# Altium footprint library PcbLib1.PcbLib: 28 footprints (part 2 of 2)
Each footprint in its own frame and in the unit in brackets; x right, y up, seen from the top. Pads: shape width x height; smd on the part's side, far side on the other; paste and mask are expansions set on the pad; w line width, h text height; cw(c..) or ccw(c..) is an arc to the next point about the centre after c.
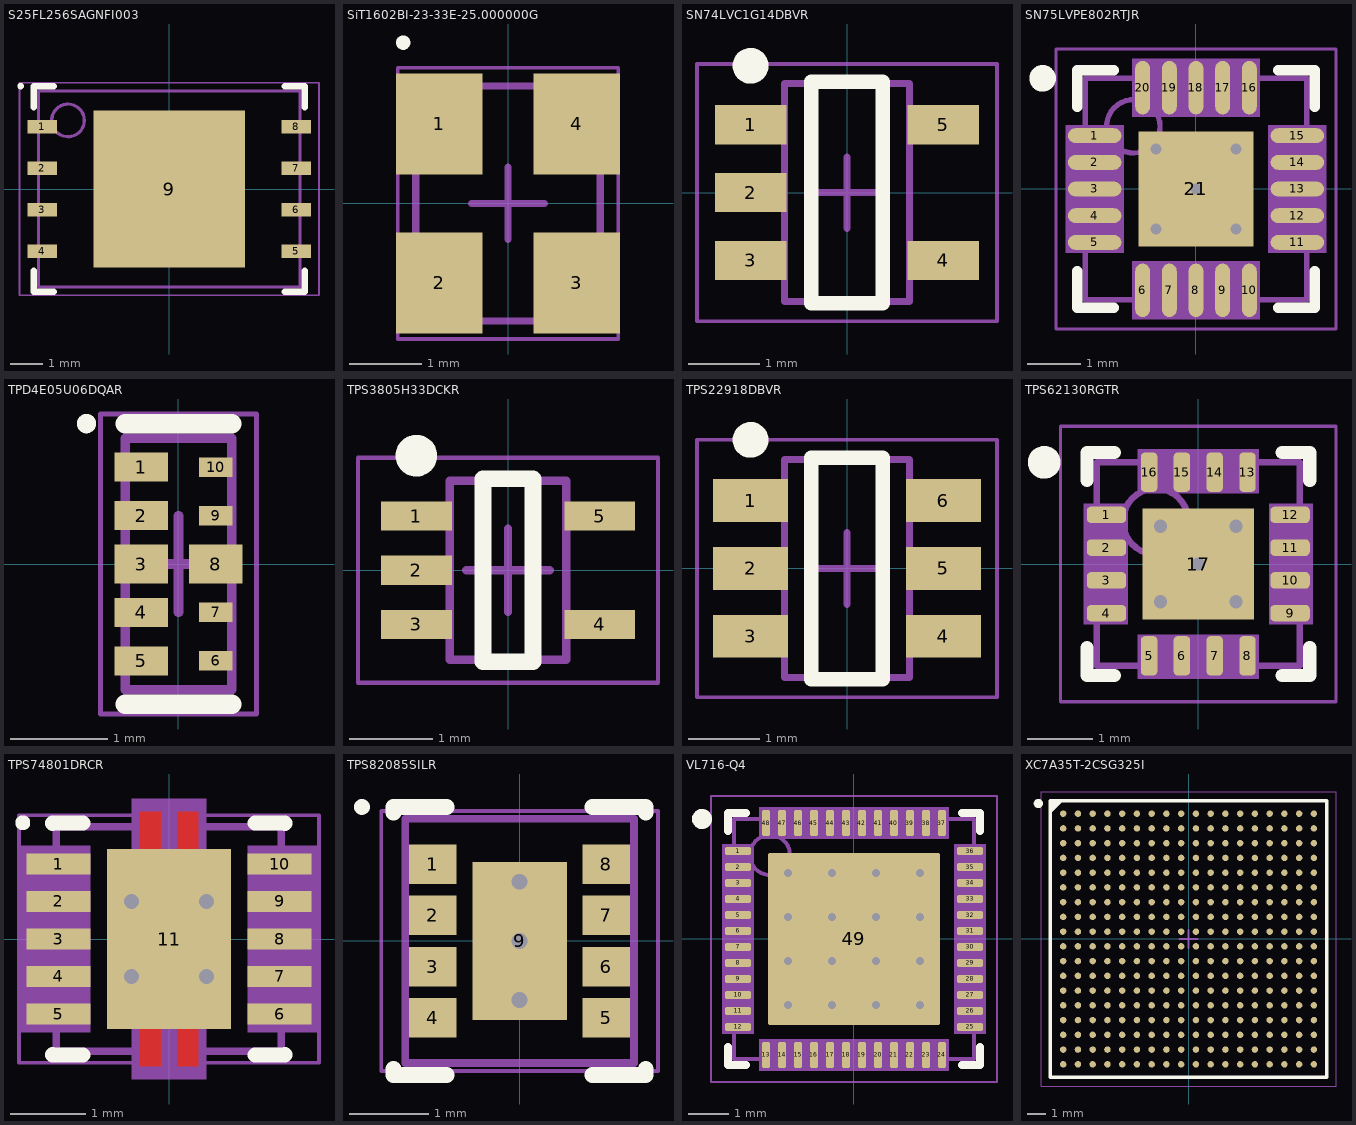
[diagram p1: the footprints below, top view; thin cyan lines are the x and y axes]

## S25FL256SAGNFI003 [mm] "SON, 8-Leads, Body 6,00x8,00mm, Pitch 1,27mm, Thermal Pad 4,80x4,65mm, IPC Medium Density"
height 0.8
pads (9):
  rect 0.9x0.4 smd: 1(-3.89,1.905) 2(-3.89,0.635) 3(-3.89,-0.635) 4(-3.89,-1.905) 5(3.89,-1.905) 6(3.89,-0.635) 7(3.89,0.635) 8(3.89,1.905)
  rect 4.65x4.8 smd paste-2.325: 9(0,0)
Top Overlay:
  circle w0.1: c-4.55,3.15 r0.05
  lines w0.2: -4.15,-2.505 -4.15,-3.15 -3.54,-3.15 ; -4.15,2.505 -4.15,3.15 -3.54,3.15 ; 3.54,-3.15 4.15,-3.15 4.15,-2.505 ; 3.54,3.15 4.15,3.15 4.15,2.505
Top Paste:
  rectangle: -2.22,1.3 -1.26,2.3
  rectangle: -2.22,0.1 -1.26,1.1
  rectangle: -2.22,-1.1 -1.26,-0.1
  rectangle: -2.22,-2.3 -1.26,-1.3
  rectangle: -1.06,1.3 -0.1,2.3
  rectangle: -1.06,0.1 -0.1,1.1
  rectangle: -1.06,-1.1 -0.1,-0.1
  rectangle: -1.06,-2.3 -0.1,-1.3
  rectangle: 0.1,1.3 1.06,2.3
  rectangle: 0.1,0.1 1.06,1.1
  rectangle: 0.1,-1.1 1.06,-0.1
  rectangle: 0.1,-2.3 1.06,-1.3
  rectangle: 1.26,1.3 2.22,2.3
  rectangle: 1.26,0.1 2.22,1.1
  rectangle: 1.26,-1.1 2.22,-0.1
  rectangle: 1.26,-2.3 2.22,-1.3
Mechanical 13:
  circle w0.1: c-3.1,2.1 r0.5
  lines w0.1: -4,-3 -4,3 4,3 4,-3 -4,-3
Mechanical 15:
  lines w0.05: -4.585,-3.25 -4.585,3.25 4.585,3.25 4.585,-3.25 -4.585,-3.25
  lines w0.1: -0.5,0 0.5,0 ; 0,-0.5 0,0.5
3D body: height 0.8, standoff 0, extent -4,-3 4,3

## SiT1602BI-23-33E-25.000000G [mm] "DFN, 4-Leads, Body 3,20x2,50mm, Pitch 1,60mm, IPC Medium Density"
height 0.8
pads (4):
  rect 1.2x1.4 smd: 1(-0.95,1.1) 2(-0.95,-1.1) 3(0.95,-1.1) 4(0.95,1.1)
Top Overlay:
  circle w0.1: c-1.45,2.225 r0.05
Mechanical 13:
  lines w0.1: -1.275,-1.625 -1.275,1.625 1.275,1.625 1.275,-1.625 -1.275,-1.625
Mechanical 15:
  lines w0.05: -1.525,-1.875 -1.525,1.875 1.525,1.875 1.525,-1.875 -1.525,-1.875
  lines w0.1: -0.5,0 0.5,0 ; 0,-0.5 0,0.5
3D body: height 0.8, standoff 0, extent -1.275,-1.625 1.275,1.625

## SN74LVC1G14DBVR [mm] "SOT23, 5-Leads, Body 2,90x2,80mm, Pitch 0,95mm, IPC Medium Density"
height 1.45
pads (5):
  rect 1x0.55 smd: 1(-1.35,0.95) 2(-1.35,0) 3(-1.35,-0.95) 4(1.35,-0.95) 5(1.35,0.95)
Top Overlay:
  circle w0.25: c-1.35,1.775 r0.125
  lines w0.2: -0.5,-1.55 -0.5,1.55 0.5,1.55 0.5,-1.55 -0.5,-1.55
Mechanical 13:
  lines w0.1: -0.875,-1.525 0.875,-1.525 0.875,1.525 -0.875,1.525 -0.875,-1.525
Mechanical 15:
  lines w0.05: -2.1,-1.8 2.1,-1.8 2.1,1.8 -2.1,1.8 -2.1,-1.8
  lines w0.1: -0.5,0 0.5,0 ; 0,-0.5 0,0.5
3D body "SN74LVC1G14DBVR.step": height 1.45, standoff 0, extent -1.5,-1.525 1.5,1.525

## SN75LVPE802RTJR [mm] "QFN, 20-Leads, Body 4,00x4,00mm, Pitch 0,50mm, Thermal Pad 2,15x2,15mm, IPC Medium Density"
height 0.8
pads (21):
  oval 1x0.28 smd paste-0.02 mask+0.04: 1(-1.9,1) 2(-1.9,0.5) 3(-1.9,0) 4(-1.9,-0.5) 5(-1.9,-1) 11(1.9,-1) 12(1.9,-0.5) 13(1.9,0) 14(1.9,0.5) 15(1.9,1)
  oval 0.28x1 smd paste-0.02 mask+0.04: 6(-1,-1.9) 7(-0.5,-1.9) 8(0,-1.9) 9(0.5,-1.9) 10(1,-1.9) 16(1,1.9) 17(0.5,1.9) 18(0,1.9) 19(-0.5,1.9) 20(-1,1.9)
  rect 2.15x2.15 smd paste-1000 mask+0.04: 21(0,0)
via 0,0 diameter 0.5 hole 0.2
via 0.75,0.75 diameter 0.5 hole 0.2
via 0.75,-0.75 diameter 0.5 hole 0.2
via -0.75,-0.75 diameter 0.5 hole 0.2
via -0.75,0.75 diameter 0.5 hole 0.2
Top Overlay:
  circle w0.25: c-2.875,2.075 r0.125
  lines w0.2: -2.225,-1.54 -2.225,-2.225 -1.54,-2.225 ; -2.225,1.54 -2.225,2.225 -1.54,2.225 ; 1.54,-2.225 2.225,-2.225 2.225,-1.54 ; 1.54,2.225 2.225,2.225 2.225,1.54
Top Paste:
  rectangle: -1.05,0.2 -0.2,1.05
  rectangle: 0.2,0.2 1.05,1.05
  rectangle: -1.05,-1.05 -0.2,-0.2
  rectangle: 0.2,-1.05 1.05,-0.2
Mechanical 13:
  circle w0.1: c-1.175,1.175 r0.5
  lines w0.1: -2.075,-2.075 -2.075,2.075 2.075,2.075 2.075,-2.075 -2.075,-2.075
Mechanical 15:
  rectangle: -1.2,-2.45 1.2,-1.35
  rectangle: 1.35,-1.2 2.45,1.2
  rectangle: -1.2,1.35 1.2,2.45
  rectangle: -2.45,-1.2 -1.35,1.2
  lines w0.05: -2.625,-2.625 -2.625,2.625 2.625,2.625 2.625,-2.625 -2.625,-2.625
  lines w0.1: -0.5,0 0.5,0 ; 0,-0.5 0,0.5
3D body: height 0.8, standoff 0, extent -2.075,-2.075 2.075,2.075

## TPD4E05U06DQAR [mm] "PSON, 10-Leads, Body 2,50x1,00mm, Pitch 0,50mm, IPC Medium Density"
height 0.55
pads (10):
  rect 0.55x0.3 smd mask+0: 1(-0.385,1) 2(-0.385,0.5) 4(-0.385,-0.5) 5(-0.385,-1)
  rect 0.55x0.4 smd mask+0: 3(-0.385,0) 8(0.385,0)
  rect 0.35x0.2 smd paste-1000 mask-1000: 6(0.385,-1) 7(0.385,-0.5) 9(0.385,0.5) 10(0.385,1)
Top Overlay:
  circle w0.1: c-0.95,1.45 r0.05
  lines w0.2: -0.55,-1.45 0.55,-1.45 ; -0.55,1.45 0.55,1.45
Top Solder:
  rectangle: -0.75,-1.25 0,1.25
  rectangle: -0.11,-0.225 0.75,0.225
Mechanical 13:
  lines w0.1: -0.55,-1.3 0.55,-1.3 0.55,1.3 -0.55,1.3 -0.55,-1.3
Mechanical 15:
  lines w0.05: -0.805,-1.55 0.805,-1.55 0.805,1.55 -0.805,1.55 -0.805,-1.55
  lines w0.1: -0.5,0 0.5,0 ; 0,-0.5 0,0.5
3D body "TPD4E05U06DQAR.step": height 0.55, standoff 0, extent -0.551,-1.3 0.551,1.3

## TPS3805H33DCKR [mm] "SOT23, 5-Leads, Body 2,00x2,10mm, Pitch 0,65mm, IPC Medium Density"
height 1.1
pads (5):
  rect 0.85x0.35 smd: 1(-1.1,0.65) 2(-1.1,0) 3(-1.1,-0.65) 4(1.1,-0.65) 5(1.1,0.65)
Top Overlay:
  circle w0.25: c-1.1,1.375 r0.125
  lines w0.2: -0.3,-1.1 -0.3,1.1 0.3,1.1 0.3,-1.1 -0.3,-1.1
Mechanical 13:
  lines w0.1: -0.7,-1.075 0.7,-1.075 0.7,1.075 -0.7,1.075 -0.7,-1.075
Mechanical 15:
  lines w0.05: -1.8,-1.35 1.8,-1.35 1.8,1.35 -1.8,1.35 -1.8,-1.35
  lines w0.1: -0.5,0 0.5,0 ; 0,-0.5 0,0.5
3D body "SOT65P210X110-5N.step": height 1.1, standoff 0, extent -1.2,-1.075 1.2,1.075

## TPS22918DBVR [mm] "SOT23, 6-Leads, Body 2,90x2,80mm, Pitch 0,95mm, IPC Medium Density"
height 1.45
pads (6):
  rect 1.05x0.6 smd: 1(-1.35,0.95) 2(-1.35,0) 3(-1.35,-0.95) 4(1.35,-0.95) 5(1.35,0) 6(1.35,0.95)
Top Overlay:
  circle w0.25: c-1.35,1.8 r0.125
  lines w0.2: -0.5,-1.55 -0.5,1.55 0.5,1.55 0.5,-1.55 -0.5,-1.55
Mechanical 13:
  lines w0.1: -0.875,-1.525 0.875,-1.525 0.875,1.525 -0.875,1.525 -0.875,-1.525
Mechanical 15:
  lines w0.05: -2.1,-1.8 2.1,-1.8 2.1,1.8 -2.1,1.8 -2.1,-1.8
  lines w0.1: -0.5,0 0.5,0 ; 0,-0.5 0,0.5
3D body "SOT95P280X145-6N.step": height 1.45, standoff 0, extent -1.5,-1.525 1.5,1.525

## TPS62130RGTR [mm] "QFN, 16-Leads, Body 3,00x3,00mm, Pitch 0,50mm, Thermal Pad 1,70x1,70mm, IPC Medium Density"
height 1
pads (17):
  rrect50% 0.6x0.25 smd paste+0 mask+0.04: 1(-1.4,0.75) 2(-1.4,0.25) 3(-1.4,-0.25) 4(-1.4,-0.75) 9(1.4,-0.75) 10(1.4,-0.25) 11(1.4,0.25) 12(1.4,0.75)
  rrect50% 0.25x0.6 smd paste+0 mask+0.04: 5(-0.75,-1.4) 6(-0.25,-1.4) 7(0.25,-1.4) 8(0.75,-1.4) 13(0.75,1.4) 14(0.25,1.4) 15(-0.25,1.4) 16(-0.75,1.4)
  rect 1.7x1.7 smd paste+0 mask+0.04: 17(0,0)
via -0.575,0.575 diameter 0.5 hole 0.2
via -0.575,-0.575 diameter 0.5 hole 0.2
via 0.575,-0.575 diameter 0.5 hole 0.2
via 0.575,0.575 diameter 0.5 hole 0.2
via 0,0 diameter 0.5 hole 0.2
Top Overlay:
  circle w0.25: c-2.35,1.55 r0.125
  lines w0.2: -1.7,-1.275 -1.7,-1.7 -1.275,-1.7 ; -1.7,1.275 -1.7,1.7 -1.275,1.7 ; 1.275,-1.7 1.7,-1.7 1.7,-1.275 ; 1.275,1.7 1.7,1.7 1.7,1.275
Mechanical 13:
  circle w0.1: c-0.65,0.65 r0.5
  lines w0.1: -1.55,-1.55 1.55,-1.55 1.55,1.55 -1.55,1.55 -1.55,-1.55
Mechanical 15:
  rectangle: -0.925,-1.75 0.925,-1.075
  rectangle: 1.075,-0.925 1.75,0.925
  rectangle: -0.925,1.075 0.925,1.75
  rectangle: -1.75,-0.925 -1.075,0.925
  lines w0.05: -2.1,-2.1 2.1,-2.1 2.1,2.1 -2.1,2.1 -2.1,-2.1
  lines w0.1: -0.5,0 0.5,0 ; 0,-0.5 0,0.5
3D body: height 1, standoff 0, extent -1.55,-1.55 1.55,1.55

## TPS74801DRCR [mm] "SON, 10-Leads, Body 3x3mm, Pitch 0.5mm, Thermal Pad 3x1.65mm"
height 1
pads (11):
  rect 0.85x0.28 smd mask+0.04: 1(-1.475,1) 2(-1.475,0.5) 3(-1.475,0) 4(-1.475,-0.5) 5(-1.475,-1) 6(1.475,-1) 7(1.475,-0.5) 8(1.475,0) 9(1.475,0.5) 10(1.475,1)
  rect 1.65x2.4 smd paste-1000 mask+0.04: 11(0,0)
via 0.5,-0.5 diameter 0.5 hole 0.2
via -0.5,-0.5 diameter 0.5 hole 0.2
via 0.5,0.5 diameter 0.5 hole 0.2
via -0.5,0.5 diameter 0.5 hole 0.2
Top Layer:
  region: 0.11,1.2 0.11,1.7 0.39,1.7 0.39,1.2
  region: -0.11,-1.2 -0.11,-1.7 -0.39,-1.7 -0.39,-1.2
  region: 0.11,-1.2 0.11,-1.7 0.39,-1.7 0.39,-1.2
  region: -0.11,1.2 -0.11,1.7 -0.39,1.7 -0.39,1.2
Top Overlay:
  circle w0.1: c-1.95,1.55 r0.05
  lines w0.2: -1.55,-1.54 -1.55,-1.55 -1.15,-1.55 ; -1.55,1.54 -1.55,1.55 -1.15,1.55 ; 1.15,-1.55 1.55,-1.55 1.55,-1.54 ; 1.15,1.55 1.55,1.55 1.55,1.54
Top Paste:
  rectangle: -0.755,0.05 -0.075,1.1
  rectangle: 0.075,0.05 0.755,1.1
  rectangle: -0.755,-1.125 -0.075,-0.075
  rectangle: 0.075,-1.125 0.755,-0.075
  region: 0.11,1.2 0.11,1.7 0.39,1.7 0.39,1.2
  region: -0.11,-1.2 -0.11,-1.7 -0.39,-1.7 -0.39,-1.2
  region: 0.11,-1.2 0.11,-1.7 0.39,-1.7 0.39,-1.2
  region: -0.11,1.2 -0.11,1.7 -0.39,1.7 -0.39,1.2
Mechanical 13:
  lines w0.1: -1.5,-1.5 1.5,-1.5 1.5,1.5 -1.5,1.5 -1.5,-1.5
Mechanical 15:
  rectangle: -2,-1.25 -1.05,1.25
  rectangle: 1.05,-1.25 2,1.25
  rectangle: -0.5,1.2 0.5,1.875
  rectangle: -0.5,-1.875 0.5,-1.2
  lines w0.05: -2,-1.65 2,-1.65 2,1.65 -2,1.65 -2,-1.65
  lines w0.1: -0.5,0 0.5,0 ; 0,-0.5 0,0.5
3D body: height 1, standoff 0, extent -1.5,-1.5 1.5,1.5

## TPS82085SILR [mm] "SON, 8-Leads, Body 3,00x2,80mm, Pitch 0,65mm, Thermal Pad 1,90x1,10mm, IPC High Density"
height 1.33
pads (9):
  rect 0.6x0.5 smd paste-0.05 mask-0.05: 1(-1.1,0.975) 2(-1.1,0.325) 3(-1.1,-0.325) 4(-1.1,-0.975) 5(1.1,-0.975) 6(1.1,-0.325) 7(1.1,0.325) 8(1.1,0.975)
  rect 1.2x2 smd paste-1000 mask-0.05: 9(0,0)
via 0,0 diameter 0.5 hole 0.2
via 0,0.75 diameter 0.5 hole 0.2
via 0,-0.75 diameter 0.5 hole 0.2
Top Overlay:
  circle w0.1: c-2,1.7 r0.05
  lines w0.2: -1.6,-1.625 -1.6,-1.7 -0.925,-1.7 ; -1.6,1.625 -1.6,1.7 -0.925,1.7 ; 0.925,-1.7 1.6,-1.7 1.6,-1.625 ; 0.925,1.7 1.6,1.7 1.6,1.625
Top Paste:
  rectangle: -0.55,0.1 0.55,1
  rectangle: -0.55,-1 0.55,-0.1
Mechanical 13:
  lines w0.1: -1.45,-1.55 -1.45,1.55 1.45,1.55 1.45,-1.55 -1.45,-1.55
Mechanical 15:
  lines w0.05: -1.755,-1.65 -1.755,1.65 1.755,1.65 1.755,-1.65 -1.755,-1.65
  lines w0.1: -0.5,0 0.5,0 ; 0,-0.5 0,0.5
3D body: height 1.33, standoff 0.08, extent -1.45,-1.55 1.45,1.55

## VL716-Q4 [mm] "QFN, 48-Leads, Body 6,00x6,00mm, Pitch 0,40mm, Thermal Pad 4,30x4,30mm, IPC Medium Density"
height 0.9
pads (49):
  rrect50% 0.65x0.2 smd mask+0.04: 1(-2.9,2.2) 2(-2.9,1.8) 3(-2.9,1.4) 4(-2.9,1) 5(-2.9,0.6) 6(-2.9,0.2) 7(-2.9,-0.2) 8(-2.9,-0.6) 9(-2.9,-1) 10(-2.9,-1.4) 11(-2.9,-1.8) 12(-2.9,-2.2) 25(2.9,-2.2) 26(2.9,-1.8) 27(2.9,-1.4) 28(2.9,-1) 29(2.9,-0.6) 30(2.9,-0.2) 31(2.9,0.2) 32(2.9,0.6) 33(2.9,1) 34(2.9,1.4) 35(2.9,1.8) 36(2.9,2.2)
  rrect50% 0.2x0.65 smd mask+0.04: 13(-2.2,-2.9) 14(-1.8,-2.9) 15(-1.4,-2.9) 16(-1,-2.9) 17(-0.6,-2.9) 18(-0.2,-2.9) 19(0.2,-2.9) 20(0.6,-2.9) 21(1,-2.9) 22(1.4,-2.9) 23(1.8,-2.9) 24(2.2,-2.9) 37(2.2,2.9) 38(1.8,2.9) 39(1.4,2.9) 40(1,2.9) 41(0.6,2.9) 42(0.2,2.9) 43(-0.2,2.9) 44(-0.6,2.9) 45(-1,2.9) 46(-1.4,2.9) 47(-1.8,2.9) 48(-2.2,2.9)
  rrect2% 4.3x4.3 smd mask+0.07: 49(0,0)
via -1.65,1.65 diameter 0.5 hole 0.2
via -0.55,1.65 diameter 0.5 hole 0.2
via 0.55,1.65 diameter 0.5 hole 0.2
via 1.65,1.65 diameter 0.5 hole 0.2
via -1.65,0.55 diameter 0.5 hole 0.2
via -0.55,0.55 diameter 0.5 hole 0.2
via 0.55,0.55 diameter 0.5 hole 0.2
via 1.65,0.55 diameter 0.5 hole 0.2
via -1.65,-0.55 diameter 0.5 hole 0.2
via -0.55,-0.55 diameter 0.5 hole 0.2
via 0.55,-0.55 diameter 0.5 hole 0.2
via 1.65,-0.55 diameter 0.5 hole 0.2
via -1.65,-1.65 diameter 0.5 hole 0.2
via -0.55,-1.65 diameter 0.5 hole 0.2
via 0.55,-1.65 diameter 0.5 hole 0.2
via 1.65,-1.65 diameter 0.5 hole 0.2
Top Overlay:
  circle w0.25: c-3.8,3 r0.125
  lines w0.2: -3.15,-2.7 -3.15,-3.15 -2.7,-3.15 ; -3.15,2.7 -3.15,3.15 -2.7,3.15 ; 2.7,-3.15 3.15,-3.15 3.15,-2.7 ; 2.7,3.15 3.15,3.15 3.15,2.7
Mechanical 13:
  circle w0.1: c-2.1,2.1 r0.5
  lines w0.1: -3,-3 -3,3 3,3 3,-3 -3,-3
Mechanical 15:
  rectangle: -3.3,-2.375 -2.5,2.375
  rectangle: -2.375,2.5 2.375,3.3
  rectangle: 2.5,-2.375 3.3,2.375
  rectangle: -2.375,-3.3 2.375,-2.5
  lines w0.05: -3.575,-3.575 -3.575,3.575 3.575,3.575 3.575,-3.575 -3.575,-3.575
  lines w0.1: -0.5,0 0.5,0 ; 0,-0.5 0,0.5
3D body: height 0.9, standoff 0, extent -3,-3 3,3

## XC7A35T-2CSG325I [mm] "BGA, 324-Balls, Body 15x15mm, Pitch 0.8mm"
height 1.5
pads (324):
  round 0.35 smd mask+0.03: A1(-6.8,6.8) A2(-6,6.8) A3(-5.2,6.8) A4(-4.4,6.8) A5(-3.6,6.8) A6(-2.8,6.8) A7(-2,6.8) A8(-1.2,6.8) A9(-0.4,6.8) A10(0.4,6.8) A11(1.2,6.8) A12(2,6.8) A13(2.8,6.8) A14(3.6,6.8) A15(4.4,6.8) A16(5.2,6.8) A17(6,6.8) A18(6.8,6.8) B1(-6.8,6) B2(-6,6) B3(-5.2,6) B4(-4.4,6) B5(-3.6,6) B6(-2.8,6) B7(-2,6) B8(-1.2,6) B9(-0.4,6) B10(0.4,6) B11(1.2,6) B12(2,6) B13(2.8,6) B14(3.6,6) B15(4.4,6) B16(5.2,6) B17(6,6) B18(6.8,6) C1(-6.8,5.2) C2(-6,5.2) C3(-5.2,5.2) C4(-4.4,5.2) C5(-3.6,5.2) C6(-2.8,5.2) C7(-2,5.2) C8(-1.2,5.2) C9(-0.4,5.2) C10(0.4,5.2) C11(1.2,5.2) C12(2,5.2) C13(2.8,5.2) C14(3.6,5.2) C15(4.4,5.2) C16(5.2,5.2) C17(6,5.2) C18(6.8,5.2) D1(-6.8,4.4) D2(-6,4.4) D3(-5.2,4.4) D4(-4.4,4.4) D5(-3.6,4.4) D6(-2.8,4.4) D7(-2,4.4) D8(-1.2,4.4) D9(-0.4,4.4) D10(0.4,4.4) D11(1.2,4.4) D12(2,4.4) D13(2.8,4.4) D14(3.6,4.4) D15(4.4,4.4) D16(5.2,4.4) D17(6,4.4) D18(6.8,4.4) E1(-6.8,3.6) E2(-6,3.6) E3(-5.2,3.6) E4(-4.4,3.6) E5(-3.6,3.6) E6(-2.8,3.6) E7(-2,3.6) E8(-1.2,3.6) E9(-0.4,3.6) E10(0.4,3.6) E11(1.2,3.6) E12(2,3.6) E13(2.8,3.6) E14(3.6,3.6) E15(4.4,3.6) E16(5.2,3.6) E17(6,3.6) E18(6.8,3.6) F1(-6.8,2.8) F2(-6,2.8) F3(-5.2,2.8) F4(-4.4,2.8) F5(-3.6,2.8) F6(-2.8,2.8) F7(-2,2.8) F8(-1.2,2.8) F9(-0.4,2.8) F10(0.4,2.8) F11(1.2,2.8) F12(2,2.8) F13(2.8,2.8) F14(3.6,2.8) F15(4.4,2.8) F16(5.2,2.8) F17(6,2.8) F18(6.8,2.8) G1(-6.8,2) G2(-6,2) G3(-5.2,2) G4(-4.4,2) G5(-3.6,2) G6(-2.8,2) G7(-2,2) G8(-1.2,2) G9(-0.4,2) G10(0.4,2) G11(1.2,2) G12(2,2) G13(2.8,2) G14(3.6,2) G15(4.4,2) G16(5.2,2) G17(6,2) G18(6.8,2) H1(-6.8,1.2) H2(-6,1.2) H3(-5.2,1.2) H4(-4.4,1.2) H5(-3.6,1.2) H6(-2.8,1.2) H7(-2,1.2) H8(-1.2,1.2) H9(-0.4,1.2) H10(0.4,1.2) H11(1.2,1.2) H12(2,1.2) H13(2.8,1.2) H14(3.6,1.2) H15(4.4,1.2) H16(5.2,1.2) H17(6,1.2) H18(6.8,1.2) J1(-6.8,0.4) J2(-6,0.4) J3(-5.2,0.4) J4(-4.4,0.4) J5(-3.6,0.4) J6(-2.8,0.4) J7(-2,0.4) J8(-1.2,0.4) J9(-0.4,0.4) J10(0.4,0.4) J11(1.2,0.4) J12(2,0.4) J13(2.8,0.4) J14(3.6,0.4) J15(4.4,0.4) J16(5.2,0.4) J17(6,0.4) J18(6.8,0.4) K1(-6.8,-0.4) K2(-6,-0.4) K3(-5.2,-0.4) K4(-4.4,-0.4) K5(-3.6,-0.4) K6(-2.8,-0.4) K7(-2,-0.4) K8(-1.2,-0.4) K9(-0.4,-0.4) K10(0.4,-0.4) K11(1.2,-0.4) K12(2,-0.4) K13(2.8,-0.4) K14(3.6,-0.4) K15(4.4,-0.4) K16(5.2,-0.4) K17(6,-0.4) K18(6.8,-0.4) L1(-6.8,-1.2) L2(-6,-1.2) L3(-5.2,-1.2) L4(-4.4,-1.2) L5(-3.6,-1.2) L6(-2.8,-1.2) L7(-2,-1.2) L8(-1.2,-1.2) L9(-0.4,-1.2) L10(0.4,-1.2) L11(1.2,-1.2) L12(2,-1.2) L13(2.8,-1.2) L14(3.6,-1.2) L15(4.4,-1.2) L16(5.2,-1.2) L17(6,-1.2) L18(6.8,-1.2) M1(-6.8,-2) M2(-6,-2) M3(-5.2,-2) M4(-4.4,-2) M5(-3.6,-2) M6(-2.8,-2) M7(-2,-2) M8(-1.2,-2) M9(-0.4,-2) M10(0.4,-2) M11(1.2,-2) M12(2,-2) M13(2.8,-2) M14(3.6,-2) M15(4.4,-2) M16(5.2,-2) M17(6,-2) M18(6.8,-2) N1(-6.8,-2.8) N2(-6,-2.8) N3(-5.2,-2.8) N4(-4.4,-2.8) N5(-3.6,-2.8) N6(-2.8,-2.8) N7(-2,-2.8) N8(-1.2,-2.8) N9(-0.4,-2.8) N10(0.4,-2.8) N11(1.2,-2.8) N12(2,-2.8) N13(2.8,-2.8) N14(3.6,-2.8) N15(4.4,-2.8) N16(5.2,-2.8) N17(6,-2.8) N18(6.8,-2.8) P1(-6.8,-3.6) P2(-6,-3.6) P3(-5.2,-3.6) P4(-4.4,-3.6) P5(-3.6,-3.6) P6(-2.8,-3.6) P7(-2,-3.6) P8(-1.2,-3.6) P9(-0.4,-3.6) P10(0.4,-3.6) P11(1.2,-3.6) P12(2,-3.6) P13(2.8,-3.6) P14(3.6,-3.6) P15(4.4,-3.6) P16(5.2,-3.6) P17(6,-3.6) P18(6.8,-3.6) R1(-6.8,-4.4) R2(-6,-4.4) R3(-5.2,-4.4) R4(-4.4,-4.4) R5(-3.6,-4.4) R6(-2.8,-4.4) R7(-2,-4.4) R8(-1.2,-4.4) R9(-0.4,-4.4) R10(0.4,-4.4) R11(1.2,-4.4) R12(2,-4.4) R13(2.8,-4.4) R14(3.6,-4.4) R15(4.4,-4.4) R16(5.2,-4.4) R17(6,-4.4) R18(6.8,-4.4) T1(-6.8,-5.2) T2(-6,-5.2) T3(-5.2,-5.2) T4(-4.4,-5.2) T5(-3.6,-5.2) T6(-2.8,-5.2) T7(-2,-5.2) T8(-1.2,-5.2) T9(-0.4,-5.2) T10(0.4,-5.2) T11(1.2,-5.2) T12(2,-5.2) T13(2.8,-5.2) T14(3.6,-5.2) T15(4.4,-5.2) T16(5.2,-5.2) T17(6,-5.2) T18(6.8,-5.2) U1(-6.8,-6) U2(-6,-6) U3(-5.2,-6) U4(-4.4,-6) U5(-3.6,-6) U6(-2.8,-6) U7(-2,-6) U8(-1.2,-6) U9(-0.4,-6) U10(0.4,-6) U11(1.2,-6) U12(2,-6) U13(2.8,-6) U14(3.6,-6) U15(4.4,-6) U16(5.2,-6) U17(6,-6) U18(6.8,-6) V1(-6.8,-6.8) V2(-6,-6.8) V3(-5.2,-6.8) V4(-4.4,-6.8) V5(-3.6,-6.8) V6(-2.8,-6.8) V7(-2,-6.8) V8(-1.2,-6.8) V9(-0.4,-6.8) V10(0.4,-6.8) V11(1.2,-6.8) V12(2,-6.8) V13(2.8,-6.8) V14(3.6,-6.8) V15(4.4,-6.8) V16(5.2,-6.8) V17(6,-6.8) V18(6.8,-6.8)
Top Overlay:
  circle w0.25: c-8.15,7.35 r0.125
  region: -6.913,7.5 -7.5,6.913 -7.5,7.5
  lines w0.2: -7.5,6.913 -6.913,7.5 ; -7.5,-7.5 -7.5,7.5 7.5,7.5 7.5,-7.5 -7.5,-7.5
Mechanical 13:
  lines w0.1: -7.5,-7.5 -7.5,7.5 7.5,7.5 7.5,-7.5 -7.5,-7.5
Mechanical 15:
  lines w0.05: -8,-8 -8,8 8,8 8,-8 -8,-8
  lines w0.1: -0.5,0 0.5,0 ; 0,-0.5 0,0.5
3D body: height 1.5, standoff 0.25, extent -7.5,-7.5 7.5,7.5